# Altium schematic symbol library DIGITAL.SchLib: 10 symbols
Pins are listed as number, name and electrical type; pins without a type are passive.

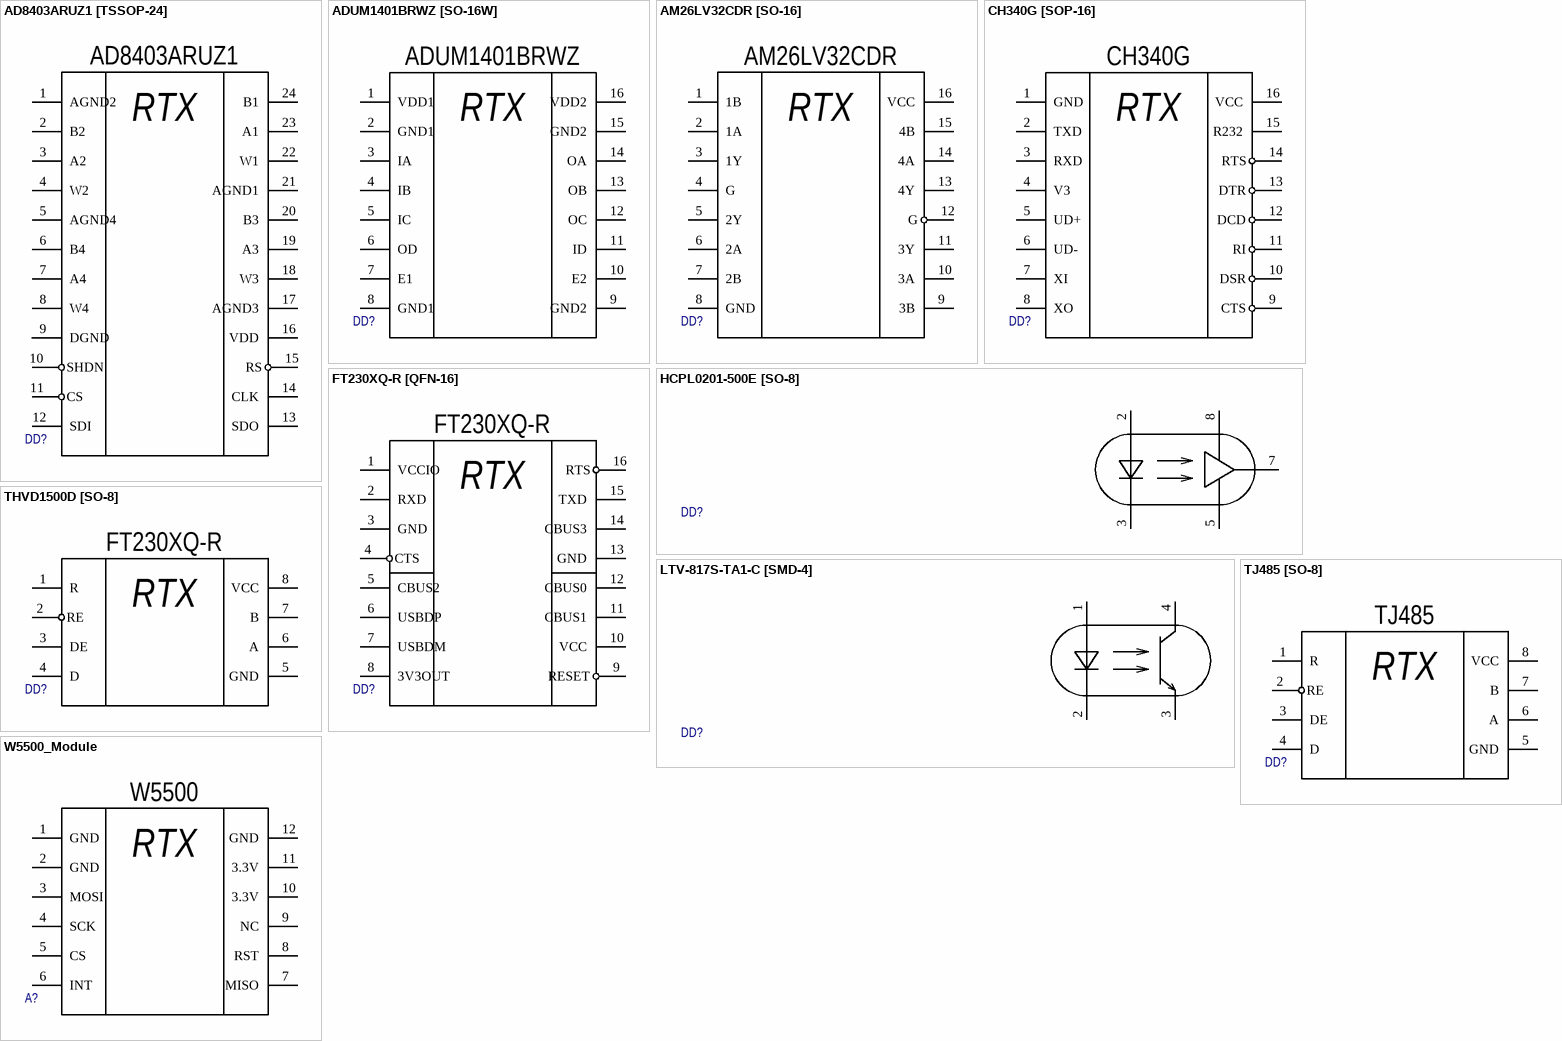
[diagram p0: symbols AD8403ARUZ1 [TSSOP-24] to W5500_Module]

## AD8403ARUZ1 [TSSOP-24]
designator DD?  (value not drawn)
4-Channel / Digital Potentiometer
footprint AD8403ARUZ1 [TSSOP-24]
pins: 1 AGND2, 2 B2, 3 A2, 4 W2, 5 AGND4, 6 B4, 7 A4, 8 W4, 9 DGND, 10 SHDN, 11 CS, 12 SDI, 13 SDO, 14 CLK, 15 RS, 16 VDD, 17 AGND3, 18 W3, 19 A3, 20 B3, 21 AGND1, 22 W1, 23 A1, 24 B1
text: AD8403ARUZ1; RTX

## ADUM1401BRWZ [SO-16W]
designator DD?  (value not drawn)
USB/UART/RS485/RS232/RS422 converter
footprint ADUM1401BRWZ [SO-16W]
pins: 1 VDD1, 2 GND1, 3 IA, 4 IB, 5 IC, 6 OD, 7 E1, 8 GND1, 9 GND2, 10 E2, 11 ID, 12 OC, 13 OB, 14 OA, 15 GND2, 16 VDD2
text: ADUM1401BRWZ; RTX

## AM26LV32CDR [SO-16]
designator DD?  (value not drawn)
Low-Voltage, High-Speed Quadruple Differential Line Receiver
footprint SO-16
pins: 1 1B, 2 1A, 3 1Y, 4 G, 5 2Y, 6 2A, 7 2B, 8 GND, 9 3B, 10 3A, 11 3Y, 12 G, 13 4Y, 14 4A, 15 4B, 16 VCC
text: AM26LV32CDR; RTX

## CH340G [SOP-16]
designator DD?  (value not drawn)
USB/UART/RS485 converter
footprint CH340G [SOP-16]
pins: 1 GND, 2 TXD, 3 RXD, 4 V3, 5 UD+, 6 UD-, 7 XI, 8 XO, 9 CTS, 10 DSR, 11 RI, 12 DCD, 13 DTR, 14 RTS, 15 R232, 16 VCC
text: CH340G; RTX

## FT230XQ-R [QFN-16]
designator DD?  (value not drawn)
USB/UART/RS485/RS232/RS422 converter
footprint FT230XQ-R [QFN-16]
pins: 1 VCCIO, 2 RXD, 3 GND, 4 CTS, 5 CBUS2, 6 USBDP, 7 USBDM, 8 3V3OUT, 9 RESET, 10 VCC, 11 CBUS1, 12 CBUS0, 13 GND, 14 CBUS3, 15 TXD, 16 RTS
text: FT230XQ-R; RTX

## HCPL0201-500E [SO-8]
designator DD?  (value not drawn)
Very High CMR, Wide VCC Logic Gate / Optocouplers
footprint HCPL0201-500E [SO-8]
pins: 2 A, 3 K, 5 GND, 7 VO, 8 VCC

## LTV-817S-TA1-C [SMD-4]
designator DD?  (value not drawn)
Very High CMR, Wide VCC Logic Gate / Optocouplers
footprint LTV-817S-TA1-C [SMD-4]
pins: 1 A, 2 K, 3, 4 VCC

## THVD1500D [SO-8]
designator DD?  (value not drawn)
footprint THVD1500D [SO-8]
pins: 1 R, 2 RE, 3 DE, 4 D, 5 GND, 6 A, 7 B, 8 VCC
text: FT230XQ-R; RTX

## TJ485 [SO-8]
designator DD?  (value not drawn)
Low-Power, Slew-Rate-Limited RS-485/RS-422 Transceivers
footprint TJ485 [SO-8]
pins: 1 R, 2 RE, 3 DE, 4 D, 5 GND, 6 A, 7 B, 8 VCC
text: TJ485; RTX

## W5500_Module
designator A?  (value not drawn)
footprint W5500_Module
pins: 1 GND, 2 GND, 3 MOSI, 4 SCK, 5 CS, 6 INT, 7 MISO, 8 RST, 9 NC, 10 3.3V, 11 3.3V, 12 GND
text: W5500; RTX